# Altium schematic symbol library Capacitor.SchLib: 45 symbols
Pins are listed as number, name and electrical type; pins without a type are passive.

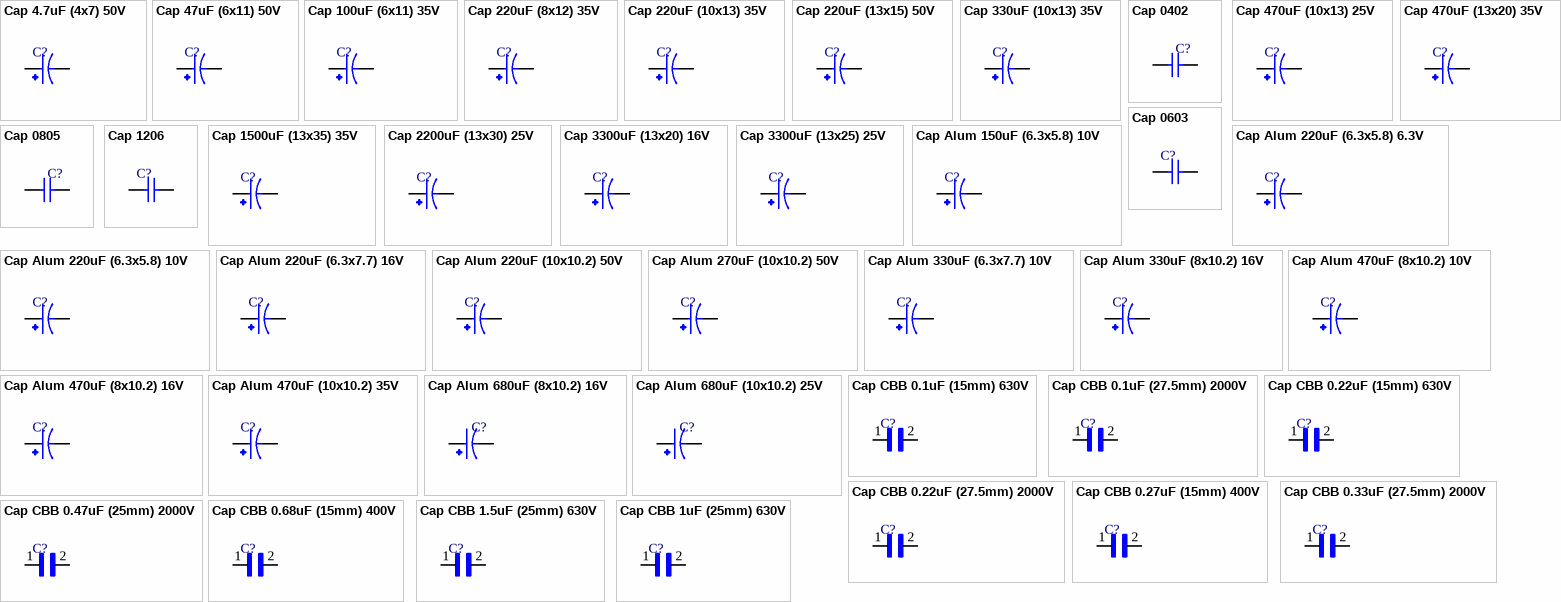
[diagram p0: symbols Cap 4.7uF (4x7) 50V to Cap CBB 1uF (25mm) 630V]

## Cap 4.7uF (4x7) 50V
designator C?, comment 4.7uF  (value not drawn)
DIP
footprint Cap electrolytic 4x7
pins: N, P

## Cap 47uF (6x11) 50V
designator C?, comment 47uF  (value not drawn)
DIP
footprint Cap electrolytic 6x11
pins: N, P

## Cap 100uF (6x11) 35V
designator C?, comment 100uF  (value not drawn)
DIP
footprint Cap electrolytic 6x11
pins: N, P

## Cap 220uF (8x12) 35V
designator C?, comment 220uF  (value not drawn)
DIP
footprint Cap electrolytic 8x12
pins: N, P

## Cap 220uF (10x13) 35V
designator C?, comment 220uF  (value not drawn)
DIP
footprint Cap electrolytic 10x13
pins: N, P

## Cap 220uF (13x15) 50V
designator C?, comment 220uF  (value not drawn)
DIP
footprint Cap electrolytic 13x15
pins: N, P

## Cap 330uF (10x13) 35V
designator C?, comment 330uF  (value not drawn)
DIP
footprint Cap electrolytic 10x13
pins: N, P

## Cap 0402
designator C?  (value not drawn)
SMD
footprint Cap 0402
pins: 1, 2

## Cap 470uF (10x13) 25V
designator C?, comment 470uF  (value not drawn)
DIP
footprint Cap electrolytic 10x13
pins: N, P

## Cap 470uF (13x20) 35V
designator C?, comment 470uF  (value not drawn)
DIP
footprint Cap electrolytic 13x20
pins: N, P

## Cap 0603
designator C?  (value not drawn)
SMD
footprint Cap 0603
pins: 1, 2

## Cap 0805
designator C?  (value not drawn)
SMD
footprint Cap 0805
pins: 1, 2

## Cap 1206
designator C?  (value not drawn)
SMD
footprint Cap 1206
pins: 1, 2

## Cap 1500uF (13x35) 35V
designator C?, comment 1500uF  (value not drawn)
DIP
footprint Cap electrolytic 13x35
pins: N, P

## Cap 2200uF (13x30) 25V
designator C?, comment 2200uF  (value not drawn)
DIP
footprint Cap electrolytic 13x30
pins: N, P

## Cap 3300uF (13x20) 16V
designator C?, comment 3300uF  (value not drawn)
DIP
footprint Cap electrolytic 13x20
pins: N, P

## Cap 3300uF (13x25) 25V
designator C?, comment 3300uF  (value not drawn)
DIP
footprint Cap electrolytic 13x25
pins: N, P

## Cap Alum 150uF (6.3x5.8) 10V
designator C?, comment 150uF  (value not drawn)
SMD
footprint Cap alum 6.3x5.8
pins: 1, 2

## Cap Alum 220uF (6.3x5.8) 6.3V
designator C?, comment 220uF  (value not drawn)
SMD
footprint Cap alum 6.3x5.8
pins: 1, 2

## Cap Alum 220uF (6.3x5.8) 10V
designator C?, comment 220uF  (value not drawn)
SMD
footprint Cap alum 6.3x5.8
pins: 1, 2

## Cap Alum 220uF (6.3x7.7) 16V
designator C?, comment 220uF  (value not drawn)
SMD
footprint Cap alum 6.3x7.7
pins: 1, 2

## Cap Alum 220uF (10x10.2) 50V
designator C?, comment 220uF  (value not drawn)
SMD
footprint Cap alum 10x10.2
pins: 1, 2

## Cap Alum 270uF (10x10.2) 50V
designator C?, comment 270uF  (value not drawn)
SMD
footprint Cap alum 10x10.2
pins: 1, 2

## Cap Alum 330uF (6.3x7.7) 10V
designator C?, comment 330uF  (value not drawn)
SMD
footprint Cap alum 6.3x7.7
pins: 1, 2

## Cap Alum 330uF (8x10.2) 16V
designator C?, comment 330uF  (value not drawn)
SMD
footprint Cap alum 8x10.2
pins: 1, 2

## Cap Alum 470uF (8x10.2) 10V
designator C?, comment 470uF  (value not drawn)
SMD
footprint Cap alum 8x10.2
pins: 1, 2

## Cap Alum 470uF (8x10.2) 16V
designator C?, comment 470uF  (value not drawn)
SMD
footprint Cap alum 8x10.2
pins: 1, 2

## Cap Alum 470uF (10x10.2) 35V
designator C?, comment 470uF  (value not drawn)
SMD
footprint Cap alum 10x10.2
pins: 1, 2

## Cap Alum 680uF (8x10.2) 16V
designator C?, comment 680uF  (value not drawn)
SMD
footprint Cap alum 8x10.2
pins: 1, 2

## Cap Alum 680uF (10x10.2) 25V
designator C?, comment 680uF  (value not drawn)
SMD
footprint Cap alum 10x10.2
pins: 1, 2

## Cap CBB 0.1uF (15mm) 630V
designator C?, comment 0.1uF 630V  (value not drawn)
DIP
footprint Cap CBB 15mm
pins: 1, 2

## Cap CBB 0.1uF (27.5mm) 2000V
designator C?, comment 0.1uF 2000V  (value not drawn)
DIP
footprint Cap CBB 27.5mm
pins: 1, 2

## Cap CBB 0.22uF (15mm) 630V
designator C?, comment 0.22uF 630V  (value not drawn)
DIP
footprint Cap CBB 15mm
pins: 1, 2

## Cap CBB 0.22uF (27.5mm) 2000V
designator C?, comment 0.22uF 2000V  (value not drawn)
DIP
footprint Cap CBB 27.5mm
pins: 1, 2

## Cap CBB 0.27uF (15mm) 400V
designator C?, comment 0.27uF 400V  (value not drawn)
DIP
footprint Cap CBB 15mm
pins: 1, 2

## Cap CBB 0.33uF (27.5mm) 2000V
designator C?, comment 0.33uF 2000V  (value not drawn)
DIP
footprint Cap CBB 27.5mm
pins: 1, 2

## Cap CBB 0.47uF (25mm) 2000V
designator C?, comment 0.47uF 2000V  (value not drawn)
DIP
footprint Cap CBB 25mm
pins: 1, 2

## Cap CBB 0.68uF (15mm) 400V
designator C?, comment 0.68uF 400V  (value not drawn)
DIP
footprint Cap CBB 15mm
pins: 1, 2

## Cap CBB 1.5uF (25mm) 630V
designator C?, comment 1.5uF 630V  (value not drawn)
DIP
footprint Cap CBB 25mm
pins: 1, 2

## Cap CBB 1uF (25mm) 630V
designator C?, comment 1uF 630V  (value not drawn)
DIP
footprint Cap CBB 25mm
pins: 1, 2

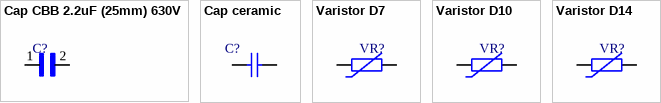
[diagram p1: symbols Cap CBB 2.2uF (25mm) 630V to Varistor D14]

## Cap CBB 2.2uF (25mm) 630V
designator C?, comment 2.2uF 630V  (value not drawn)
DIP
footprint Cap CBB 25mm
pins: 1, 2

## Cap ceramic
designator C?  (value not drawn)
DIP
footprint Cap ceramic
pins: 1, 2

## Varistor D7
designator VR?, comment D7  (value not drawn)
DIP
footprint Varistor D7
pins: 1, 2

## Varistor D10
designator VR?, comment D10  (value not drawn)
DIP
footprint Varistor D10
pins: 1, 2

## Varistor D14
designator VR?, comment D14  (value not drawn)
DIP
footprint Varistor D14
pins: 1, 2